# Altium integrated library RSM-112-02-L-S.IntLib: 1 symbol
Pins are listed as number, name and electrical type; pins without a type are passive.

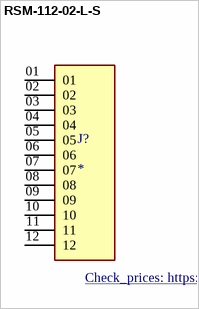
[diagram p0: symbol RSM-112-02-L-S]

## RSM-112-02-L-S
designator J?
12 Position Receptacle Connector Surface Mount; MP: RSM-112-02-L-S; MF: Samtec; Value: *; Package: None; Toby_UK-Purchase-URL: https://snapeda.com/shop?store=Toby+UK&id=3256852; SnapEDA_Link: https://www.snapeda.com/parts/RSM-112-02-L-S/Samtec/view-part/3256852/?ref=snap; Digi-Key_Part_Number: RSM-112-02-L-S-K-ND; Check_prices: https://www.snapeda.com/parts/RSM-112-02-L-S/Samtec/view-part/3256852/?ref=eda
footprint SAMTEC_RSM-112-02-L-S
pins: 01, 02, 03, 04, 05, 06, 07, 08, 09, 10, 11, 12